# EAGLE library part C10 (library con-ninigi-3.96)
NINIGI
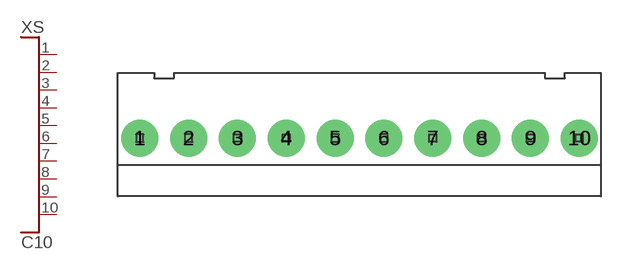
[diagram p4: symbol with the pads of NINIGI10C; footprint NINIGI10C]

Designator prefix XS

## C10  [NINIGI10C]
1  P$1
2  P$2
3  P$3
4  P$4
5  P$5
6  P$6
7  P$7
8  P$8
9  P$9
10  P$10

## Footprint NINIGI10C (pad centres in mm)
drill 1.6 pad 3: 1 -17.82,0; 2 -13.86,0; 3 -9.9,0; 4 -5.94,0; 5 -1.98,0; 6 1.98,0; 7 5.94,0; 8 9.9,0; 9 13.86,0; 10 17.82,0